# EAGLE library part XBEE_S2C (library XBeeS2C)
Xbee akizuzki socket
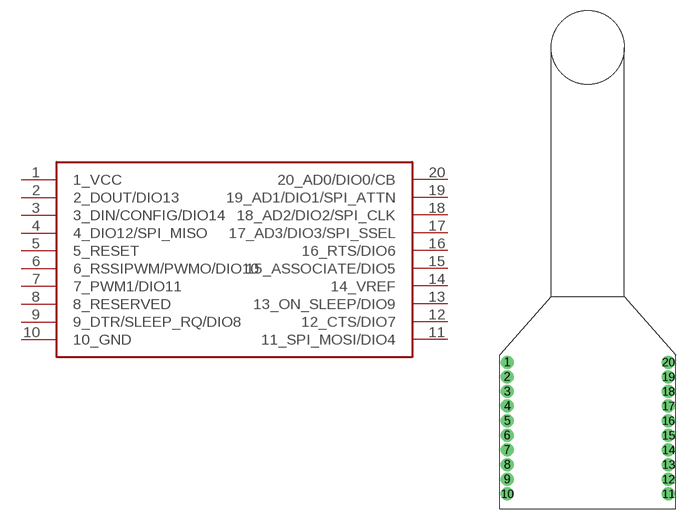
[diagram p0: symbol with the pads of XBEE_S2C; footprint XBEE_S2C]

Designator prefix XBEE

## XBEE_S2C  [XBEE_S2C]
1  1_VCC
2  2_DOUT/DIO13
3  3_DIN/CONFIG/DIO14
4  4_DIO12/SPI_MISO
5  5_RESET
6  6_RSSIPWM/PWMO/DIO10
7  7_PWM1/DIO11
8  8_RESERVED
9  9_DTR/SLEEP_RQ/DIO8
10  10_GND
11  11_SPI_MOSI/DIO4
12  12_CTS/DIO7
13  13_ON_SLEEP/DIO9
14  14_VREF
15  15_ASSOCIATE/DIO5
16  16_RTS/DIO6
17  17_AD3/DIO3/SPI_SSEL
18  18_AD2/DIO2/SPI_CLK
19  19_AD1/DIO1/SPI_ATTN
20  20_AD0/DIO0/CB

## Footprint XBEE_S2C (pad centres in mm)
XBee S2C akizuki socket
drill 0.8 pad 1.778: 1 0,18; 2 0,16; 3 0,14; 4 0,12; 5 0,10; 6 0,8; 7 0,6; 8 0,4; 9 0,2; 10 0,0; 11 22,0; 12 22,2; 13 22,4; 14 22,6; 15 22,8; 16 22,10; 17 22,12; 18 22,14; 19 22,16; 20 22,18